# EAGLE library part CAT3200TDI-GT3 (library Catalyst_Semiconductor_By_element14_Batch_1)
DC-DC Converter
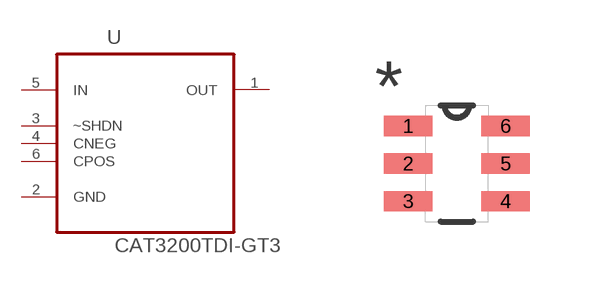
[diagram p28: symbol with the pads of SOT95P280X100-6N; footprint SOT95P280X100-6N]

Designator prefix U

## CAT3200TDI-GT3 (MPN: CAT3200TDI-GT3; OC_FARNELL: 1718441; OC_NEWARK: 08R5251; PACKAGE: SOT-23-6; SUPPLIER: CATALYST SEMICONDUCTOR)  [SOT95P280X100-6N]
1  OUT  out
2  GND  pas
3  ~SHDN  in
4  CNEG  in
5  IN  in
6  CPOS  in

## Footprint SOT95P280X100-6N (pad centres in mm)
smd 1.219 x 0.508: 1 -1.219,0.94; 2 -1.219,0; 3 -1.219,-0.94; 4 1.219,-0.94; 5 1.219,0; 6 1.219,0.94